# Altium schematic symbol library STC15W204S.SchLib: 2 symbols
Pins are listed as number, name and electrical type; pins without a type are passive.

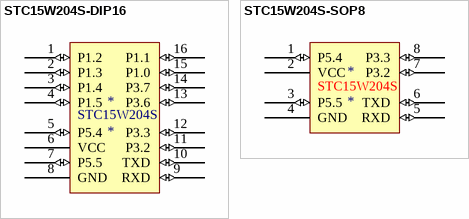
[diagram p0: symbols STC15W204S-DIP16 to STC15W204S-SOP8]

## STC15W204S-DIP16
designator *
footprint DIP16
pins: 1 P1.2 (io), 2 P1.3 (io), 3 P1.4 (io), 4 P1.5 (io), 5 P5.4 (io), 6 VCC (power), 7 P5.5 (io), 8 GND (power), 9 RXD (io), 10 TXD (io), 11 P3.2 (io), 12 P3.3 (io), 13 P3.6 (io), 14 P3.7 (io), 15 P1.0 (io), 16 P1.1 (io)
text: STC15W204S

## STC15W204S-SOP8
designator *
footprint SOP8
pins: 1 P5.4 (io), 2 VCC (power), 3 P5.5 (io), 4 GND (power), 5 RXD (io), 6 TXD (io), 7 P3.2 (io), 8 P3.3 (io)
text: STC15W204S